# EAGLE library part BOB_XC3S250E (library CEDTv76)
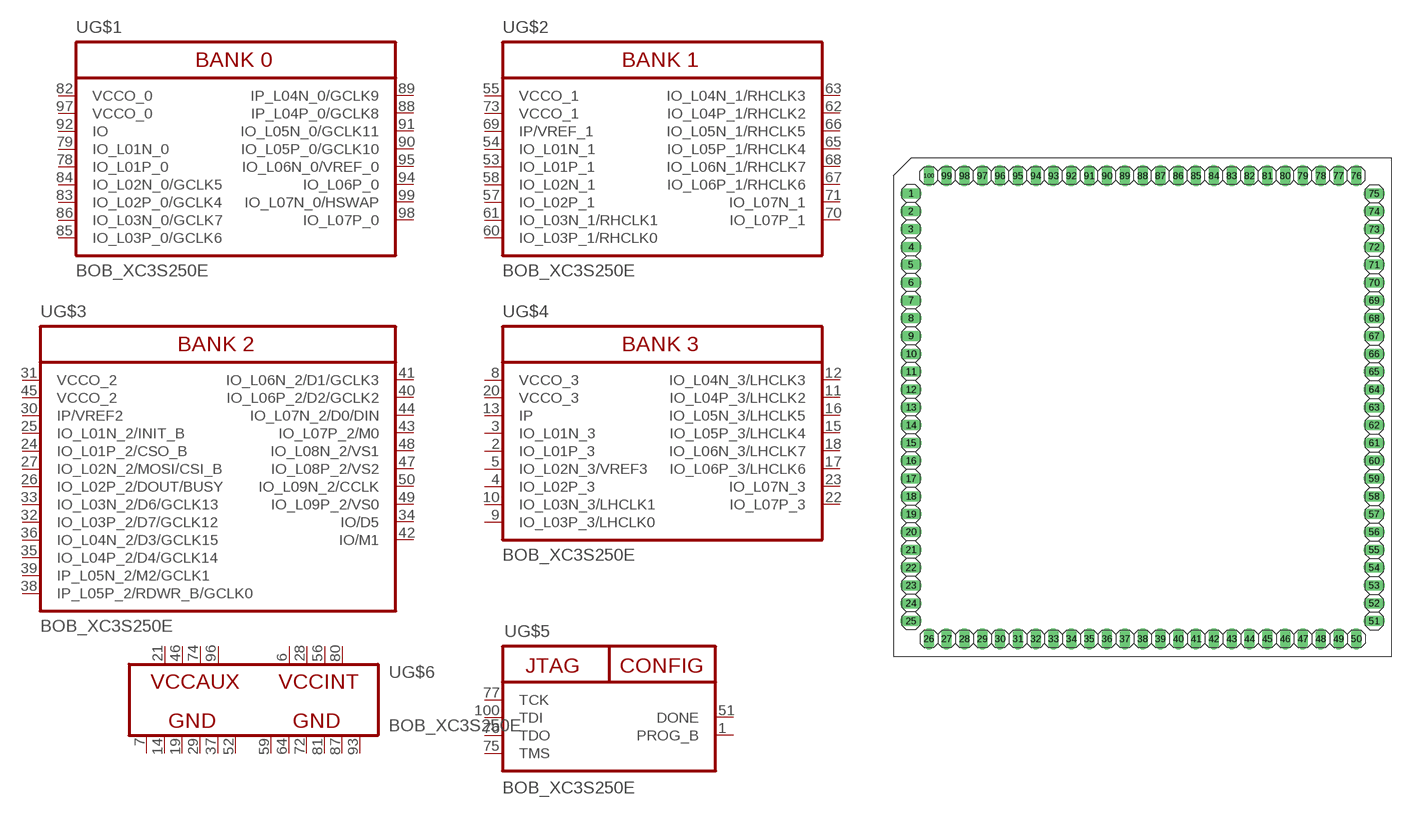
[diagram p66: symbol with the pads of XC3S250E_VQ100_BOB; footprint XC3S250E_VQ100_BOB]

Designator prefix -; gates G$1=XC100VQ100BANK0 G$2=XC100VQ100BANK1 G$3=XC100VQ100BANK2 G$4=XC100VQ100BANK3 G$5=XC100VQ100JTAG G$6=XC100VQ100POWER

## BOB_XC3S250E  [XC3S250E_VQ100_BOB]
1  G$5:PROG_B  pas
2  G$4:IO_L01P_3  pas
3  G$4:IO_L01N_3  pas
4  G$4:IO_L02P_3  pas
5  G$4:IO_L02N_3/VREF3  pas
6  G$6:VCCINT  pas
7  G$6:GND  pas
8  G$4:VCCO_3  pas
9  G$4:IO_L03P_3/LHCLK0  pas
10  G$4:IO_L03N_3/LHCLK1  pas
11  G$4:IO_L04P_3/LHCLK2  pas
12  G$4:IO_L04N_3/LHCLK3  pas
13  G$4:IP  pas
14  G$6:GND  pas
15  G$4:IO_L05P_3/LHCLK4  pas
16  G$4:IO_L05N_3/LHCLK5  pas
17  G$4:IO_L06P_3/LHCLK6  pas
18  G$4:IO_L06N_3/LHCLK7  pas
19  G$6:GND  pas
20  G$4:VCCO_3  pas
21  G$6:VCCAUX  pas
22  G$4:IO_L07P_3  pas
23  G$4:IO_L07N_3  pas
24  G$3:IO_L01P_2/CSO_B  pas
25  G$3:IO_L01N_2/INIT_B  pas
26  G$3:IO_L02P_2/DOUT/BUSY  pas
27  G$3:IO_L02N_2/MOSI/CSI_B  pas
28  G$6:VCCINT  pas
29  G$6:GND  pas
30  G$3:IP/VREF2  pas
31  G$3:VCCO_2  pas
32  G$3:IO_L03P_2/D7/GCLK12  pas
33  G$3:IO_L03N_2/D6/GCLK13  pas
34  G$3:IO/D5  pas
35  G$3:IO_L04P_2/D4/GCLK14  pas
36  G$3:IO_L04N_2/D3/GCLK15  pas
37  G$6:GND  pas
38  G$3:IP_L05P_2/RDWR_B/GCLK0  pas
39  G$3:IP_L05N_2/M2/GCLK1  pas
40  G$3:IO_L06P_2/D2/GCLK2  pas
41  G$3:IO_L06N_2/D1/GCLK3  pas
42  G$3:IO/M1  pas
43  G$3:IO_L07P_2/M0  pas
44  G$3:IO_L07N_2/D0/DIN  pas
45  G$3:VCCO_2  pas
46  G$6:VCCAUX  pas
47  G$3:IO_L08P_2/VS2  pas
48  G$3:IO_L08N_2/VS1  pas
49  G$3:IO_L09P_2/VS0  pas
50  G$3:IO_L09N_2/CCLK  pas
51  G$5:DONE  pas
52  G$6:GND  pas
53  G$2:IO_L01P_1  pas
54  G$2:IO_L01N_1  pas
55  G$2:VCCO_1  pas
56  G$6:VCCINT  pas
57  G$2:IO_L02P_1  pas
58  G$2:IO_L02N_1  pas
59  G$6:GND  pas
60  G$2:IO_L03P_1/RHCLK0  pas
61  G$2:IO_L03N_1/RHCLK1  pas
62  G$2:IO_L04P_1/RHCLK2  pas
63  G$2:IO_L04N_1/RHCLK3  pas
64  G$6:GND  pas
65  G$2:IO_L05P_1/RHCLK4  pas
66  G$2:IO_L05N_1/RHCLK5  pas
67  G$2:IO_L06P_1/RHCLK6  pas
68  G$2:IO_L06N_1/RHCLK7  pas
69  G$2:IP/VREF_1  pas
70  G$2:IO_L07P_1  pas
71  G$2:IO_L07N_1  pas
72  G$6:GND  pas
73  G$2:VCCO_1  pas
74  G$6:VCCAUX  pas
75  G$5:TMS  pas
76  G$5:TDO  pas
77  G$5:TCK  pas
78  G$1:IO_L01P_0  pas
79  G$1:IO_L01N_0  pas
80  G$6:VCCINT  pas
81  G$6:GND  pas
82  G$1:VCCO_0  pas
83  G$1:IO_L02P_0/GCLK4  pas
84  G$1:IO_L02N_0/GCLK5  pas
85  G$1:IO_L03P_0/GCLK6  pas
86  G$1:IO_L03N_0/GCLK7  pas
87  G$6:GND  pas
88  G$1:IP_L04P_0/GCLK8  pas
89  G$1:IP_L04N_0/GCLK9  pas
90  G$1:IO_L05P_0/GCLK10  pas
91  G$1:IO_L05N_0/GCLK11  pas
92  G$1:IO  pas
93  G$6:GND  pas
94  G$1:IO_L06P_0  pas
95  G$1:IO_L06N_0/VREF_0  pas
96  G$6:VCCAUX  pwr
97  G$1:VCCO_0  pas
98  G$1:IO_L07P_0  pas
99  G$1:IO_L07N_0/HSWAP  pas
100  G$5:TDI  pas

## Footprint XC3S250E_VQ100_BOB (pad centres in mm)
drill 1.016 long: 1 2.54,66.04; 2 2.54,63.5; 3 2.54,60.96; 4 2.54,58.42; 5 2.54,55.88; 6 2.54,53.34; 7 2.54,50.8; 8 2.54,48.26; 9 2.54,45.72; 10 2.54,43.18; 11 2.54,40.64; 12 2.54,38.1; 13 2.54,35.56; 14 2.54,33.02; 15 2.54,30.48; 16 2.54,27.94; 17 2.54,25.4; 18 2.54,22.86; 19 2.54,20.32; 20 2.54,17.78; 21 2.54,15.24; 22 2.54,12.7; 23 2.54,10.16; 24 2.54,7.62; 25 2.54,5.08; 26 5.08,2.54; 27 7.62,2.54; 28 10.16,2.54; 29 12.7,2.54; 30 15.24,2.54; 31 17.78,2.54; 32 20.32,2.54; 33 22.86,2.54; 34 25.4,2.54; 35 27.94,2.54; 36 30.48,2.54; 37 33.02,2.54; 38 35.56,2.54; 39 38.1,2.54; 40 40.64,2.54; 41 43.18,2.54; 42 45.72,2.54; 43 48.26,2.54; 44 50.8,2.54; 45 53.34,2.54; 46 55.88,2.54; 47 58.42,2.54; 48 60.96,2.54; 49 63.5,2.54; 50 66.04,2.54; 51 68.58,5.08; 52 68.58,7.62; 53 68.58,10.16; 54 68.58,12.7; 55 68.58,15.24; 56 68.58,17.78; 57 68.58,20.32; 58 68.58,22.86; 59 68.58,25.4; 60 68.58,27.94; 61 68.58,30.48; 62 68.58,33.02; 63 68.58,35.56; 64 68.58,38.1; 65 68.58,40.64; 66 68.58,43.18; 67 68.58,45.72; 68 68.58,48.26; 69 68.58,50.8; 70 68.58,53.34; 71 68.58,55.88; 72 68.58,58.42; 73 68.58,60.96; 74 68.58,63.5; 75 68.58,66.04; 76 66.04,68.58; 77 63.5,68.58; 78 60.96,68.58; 79 58.42,68.58; 80 55.88,68.58; 81 53.34,68.58; 82 50.8,68.58; 83 48.26,68.58; 84 45.72,68.58; 85 43.18,68.58; 86 40.64,68.58; 87 38.1,68.58; 88 35.56,68.58; 89 33.02,68.58; 90 30.48,68.58; 91 27.94,68.58; 92 25.4,68.58; 93 22.86,68.58; 94 20.32,68.58; 95 17.78,68.58; 96 15.24,68.58; 97 12.7,68.58; 98 10.16,68.58; 99 7.62,68.58; 100 5.08,68.58